# Altium footprint library Levitador_GMI.PcbLib: 28 footprints (part 1 of 2)
Each footprint in its own frame and in the unit in brackets; x right, y up, seen from the top. Pads: shape width x height; smd on the part's side, far side on the other; paste and mask are expansions set on the pad; w line width, h text height; cw(c..) or ccw(c..) is an arc to the next point about the centre after c.
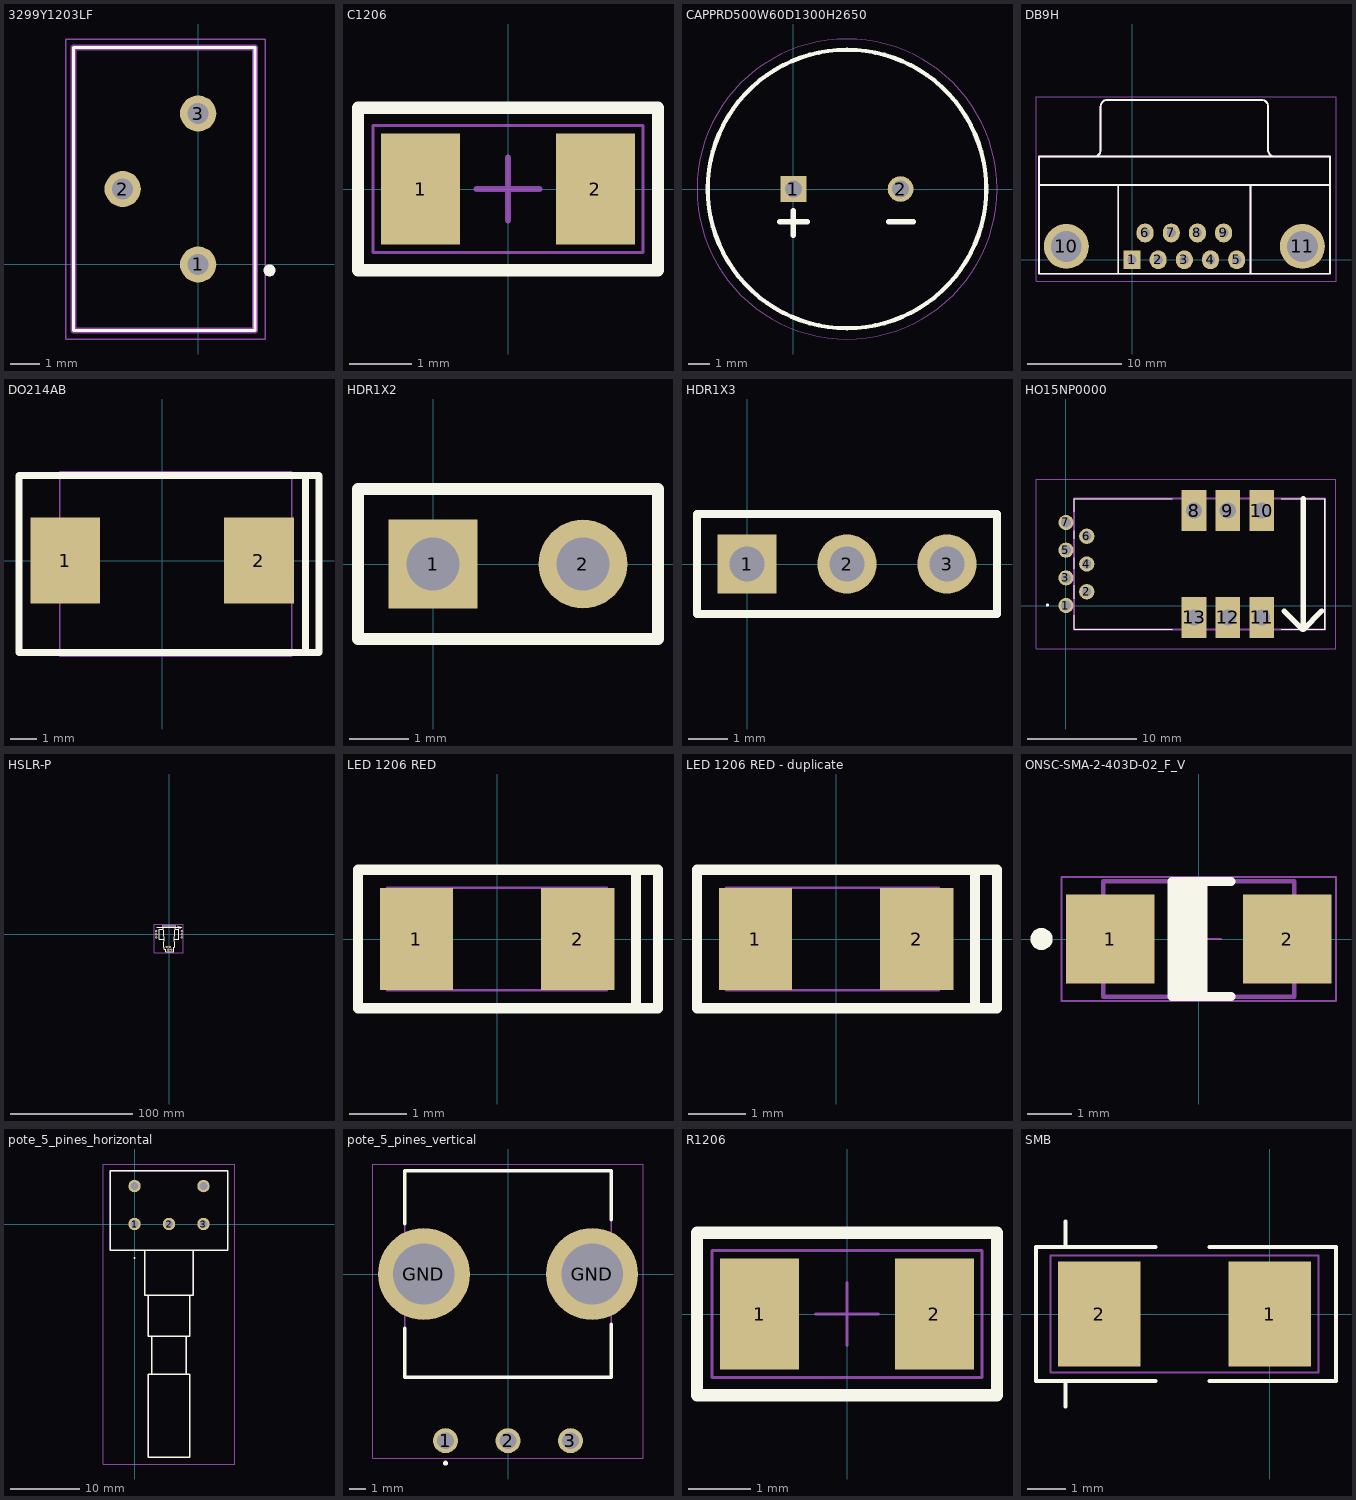
[diagram p0: the footprints below, top view; thin cyan lines are the x and y axes]

## 3299Y1203LF [mm]
pads (3):
  round 1.217 hole 0.71: 1(0,0) 2(-2.54,2.54) 3(0,5.08)
Top Overlay:
  lines w0.1: -4.19,-2.225 1.91,-2.225 1.91,7.305 -4.19,7.305 -4.19,-2.225
  lines w0.2: 2.4,-0.3 ccw(c2.4,-0.2) 2.4,-0.1 ccw(c2.4,-0.2) 2.4,-0.3
Mechanical 13:
  lines w0.2: -4.19,-2.225 1.91,-2.225 1.91,7.305 -4.19,7.305 -4.19,-2.225
Mechanical 15:
  lines w0.05: -4.463,-2.507 2.251,-2.507 2.251,7.587 -4.463,7.587 -4.463,-2.507
3D body "3299Y-1-203LF.stp": height 11.65, standoff -5, extent -4.19,-2.225 1.91,7.305

## C1206 [mm]
pads (2):
  rect 1.27x1.778 smd: 1(-1.4,0) 2(1.4,0)
Top Overlay:
  lines w0.2: -2.4,-1.3 -2.4,1.3 2.4,1.3 2.4,-1.3 -2.4,-1.3
Mechanical 15:
  lines w0.05: -2.159,-1.016 -2.159,1.016 2.159,1.016 2.159,-1.016 -2.159,-1.016
  lines w0.1: -0.5,0 0.5,0 ; 0,-0.5 0,0.5
3D body "C1206.step": height 1, standoff 0, extent -1.6,-0.8 1.6,0.8

## CAPPRD500W60D1300H2650 [mm]
pads (2):
  rect 1.2x1.2 hole 0.8: 1(0,0)
  round 1.2 hole 0.8: 2(5,0)
Top Overlay:
  circle w0.2: c2.5,0 r6.5
  lines w0.254: -0.635,-1.524 0.635,-1.524 ; 0,-2.159 0,-1.016 ; 4.445,-1.524 5.588,-1.524
Mechanical 13:
  circle w0.1: c2.5,0 r6.5
Mechanical 15:
  circle w0.05: c2.5,0 r7
3D body "EKY-350ELL102MK25S.stp": height 26.5, standoff -10, extent -4,-6.497 9,6.497

## DB9H [mm]
pads (11):
  rect 1.8x2 hole 1: 1(0,0)
  oval 1.8x2 hole 1: 2(2.77,0) 3(5.54,0) 4(8.31,0) 5(11.08,0) 6(1.385,2.84) 7(4.155,2.84) 8(6.925,2.84) 9(9.695,2.84)
  round 4.76 hole 3.26: 10(-6.955,1.42) 11(18.035,1.42)
Top Overlay:
  lines w0.2: -9.86,7.92 20.94,7.92 ; -4.02,10.925 ccw(c-4.02,11.62) -3.325,11.62 -3.325,16.22 ; -3.32,16.225 cw(c-2.625,16.225) -2.625,16.92 13.705,16.92 cw(c13.705,16.225) 14.4,16.225 ; -1.46,-1.48 -1.46,7.92 ; 12.54,-1.48 12.54,7.92 ; 14.405,16.22 14.405,11.62 ccw(c15.1,11.62) 15.1,10.925 ; -9.86,-1.48 -9.86,10.92 20.94,10.92 20.94,-1.48 -9.86,-1.48
Mechanical 13:
  lines w0.2: -9.86,7.92 20.94,7.92 ; -4.02,10.925 ccw(c-4.02,11.62) -3.325,11.62 -3.325,16.22 ; -3.32,16.225 cw(c-2.625,16.225) -2.625,16.92 13.705,16.92 cw(c13.705,16.225) 14.4,16.225 ; -1.46,-1.48 -1.46,7.92 ; 12.54,-1.48 12.54,7.92 ; 14.405,16.22 14.405,11.62 ccw(c15.1,11.62) 15.1,10.925 ; -9.86,-1.48 20.94,-1.48 20.94,10.92 -9.86,10.92 -9.86,-1.48
Mechanical 15:
  lines w0.051: -9.906,-2.286 21.59,-2.286 21.59,17.272 -10.16,17.272 -10.16,-2.032 -10.16,-2.286 -9.652,-2.286
3D body "DB9H PCB.STEP": height 12.58, standoff -3.14, extent -9.841,-2.082 20.969,16.993

## DO214AB [mil]
pads (2):
  rect 102x126 smd: 1(-142,0) 2(142,0)
Top Overlay:
  lines w10: 210,-135 210,125 ; -210,-135 230,-135 230,125 -210,125 -210,-135
Mechanical 15:
  lines w2: -150,-140 -150,130 190,130 190,-140 -150,-140
3D body "DO-214AB(SMC).step": height 103, standoff -1, extent -145,-129 175,119

## HDR1X2 [mm]
pads (2):
  rect 1.5x1.5 hole 0.9: 1(0,0)
  round 1.5 hole 0.9: 2(2.54,0)
Top Overlay:
  lines w0.2: -1.27,-1.27 -1.27,1.27 3.81,1.27 3.81,-1.27 -1.27,-1.27
Mechanical 15:
  lines w0.05: -1.27,-1.27 3.81,-1.27 3.81,1.27 -1.27,1.27 -1.27,-1.27
3D body "PinHeader_1x02_P2.54mm_Vertical.step": height 8.54, standoff -3, extent -1.27,-1.27 3.81,1.27

## HDR1X3 [mm] "Connector; Header; 3 Position"
pads (3):
  rect 1.5x1.5 hole 0.9: 1(0,0)
  round 1.5 hole 0.9: 2(2.54,0) 3(5.08,0)
Top Overlay:
  lines w0.2: -1.27,-1.27 6.35,-1.27 6.35,1.27 -1.27,1.27 -1.27,-1.27
Mechanical 15:
  lines w0.05: -1.27,0.762 -1.27,1.27 ; -1.27,1.27 6.35,1.27 6.35,-1.27 -1.27,-1.27 -1.27,1.27
3D body "PinHeader_1x03_P2.54mm_Vertical.step": height 8.54, standoff -3, extent -1.27,-1.27 6.35,1.27

## HO15NP0000 [mm]
pads (13):
  round 1.4 hole 0.9: 1(0,0) 2(1.905,1.27) 3(0,2.54) 4(1.905,3.81) 5(0,5.08) 6(1.905,6.35) 7(0,7.62)
  rect 2.25x3.75 hole 1.5: 8(11.735,8.71) 9(14.835,8.71) 10(17.935,8.71) 11(17.935,-1.09) 12(14.835,-1.09) 13(11.735,-1.09)
Top Overlay:
  lines w0.1: 0.735,9.81 9.75,9.81 0.735,9.81 ; 0.735,9.81 0.735,8.62 0.735,9.81 ; 0.75,-2.19 9.75,-2.19 0.75,-2.19 ; 0.75,-2.19 0.735,-2.19 0.735,-0.88 0.75,-0.88 0.75,-2.19 ; 23.735,-2.19 23.735,9.81 23.75,9.81 ; 23.735,-2.19 23.75,-2.19 23.75,9.81 ; 23.735,-2.19 19.75,-2.19 23.735,-2.19 ; 23.75,9.81 19.75,9.81 23.75,9.81 ; 0.735,0.62 0.735,1.87 0.735,0.62 ; 0.735,3.37 0.735,4.37 0.735,3.37 ; 0.735,6.12 0.735,6.87 0.735,6.12
  lines w0.2: -1.7,0 ccw(c-1.7,0.05) -1.7,0.1 ; -1.7,0 cw(c-1.7,0.05) -1.7,0.1 ; -1.7,0 ccw(c-1.7,0.05) -1.7,0.1
  lines w0.254: 21.683,-2.183 21.75,-2.183
  lines w0.5: 20,-0.5 21.683,-2.183 ; 21.75,9.81 21.75,-2.183 23.433,-0.5
Mechanical 13:
  lines w0.2: 0.735,-2.19 23.735,-2.19 23.735,9.81 0.735,9.81 0.735,-2.19
Mechanical 15:
  lines w0.05: -2.75,-3.965 24.75,-3.965 24.75,11.585 -2.75,11.585 -2.75,-3.965
3D body "HO_15-NP_BLACKBOX.stp": height 11.9, standoff -3.6, extent -0.183,-2.21 23.755,9.79

## HSLR-P [mm]
pads (10):
  round 1.9 hole 1: 1(-1.905,-10.31) 2(-0.635,-12.51) 3(0.635,-10.31) 4(1.905,-12.51) 5(10.5,-2.54) 6(10.5,0) 7(10.5,2.54) 8(-10.5,2.54) 9(-10.5,0) 10(-10.5,-2.54)
Top Overlay:
  lines w0.254: -9.906,5.588 10.541,5.588 ; -4.572,3.937 -8.001,3.937 -8.001,-3.937 -4.064,-3.937 ; -4.4,-10.414 -3.81,-10.414 -3.81,-12.065 -2.54,-12.065 -2.54,-14.351 3.683,-14.351 3.683,-10.414 4.4,-10.414 ; -4.4,-10.4 ccw(c-63.301,-3.844) -5,6.8 5,6.8 ccw(c63.301,-3.844) 4.4,-10.4 ; 4.064,-3.937 8.001,-3.937 8.001,3.937 4.572,3.937 ; 6.731,4.191 10.541,5.588 ; 6.731,6.985 10.541,5.588
Mechanical 15:
  lines w0.05: -11.938,-14.986 11.811,-14.986 11.811,8.255 -11.938,8.255 -11.938,-14.986
3D body: height 12, standoff 0, extent -4.953,-9.398 5.08,6.858

## LED 1206 RED [mm] "Led SMD 1206"
height 0.508
pads (2):
  rect 1.27x1.778 smd: 1(-1.4,0) 2(1.4,0)
Top Overlay:
  lines w0.178: 2.413,-1.2 2.794,-1.2 2.794,1.2 2.413,1.2 ; 2.413,-1.2 2.413,1.2 ; 2.413,-1.2 -2.413,-1.2 -2.413,1.2 2.413,1.2
Mechanical 15:
  lines w0.05: -1.905,-0.889 1.905,-0.889 1.905,0.889 -1.905,0.889 -1.905,-0.889
3D body: height 0.2, standoff 0.13, extent -0.229,-0.229 0.229,0.229
3D body: height 0.13, standoff 0.03, extent -1.143,-0.508 0.356,0.508
3D body: height 0.5, standoff 0, extent 1.14,-0.779 1.752,0.804
3D body: height 0.5, standoff 0, extent -1.051,-0.776 1.158,0.81
3D body: height 0.5, standoff 0, extent -1.66,-0.779 -1.048,0.804

## LED 1206 RED - duplicate [mm] "Led SMD 1206"
height 0.508
pads (2):
  rect 1.27x1.778 smd: 1(-1.4,0) 2(1.4,0)
Top Overlay:
  lines w0.178: 2.413,-1.2 -2.413,-1.2 -2.413,1.2 2.413,1.2 ; 2.413,-1.2 2.413,1.2 ; 2.413,-1.2 2.794,-1.2 2.794,1.2 2.413,1.2
Mechanical 15:
  lines w0.05: -1.905,-0.889 -1.905,0.889 1.778,0.889 1.778,-0.889 -1.905,-0.889
3D body: height 0.5, standoff 0, extent -1.66,-0.779 -1.048,0.804
3D body: height 0.5, standoff 0, extent -1.051,-0.776 1.158,0.81
3D body: height 0.5, standoff 0, extent 1.14,-0.779 1.752,0.804
3D body: height 0.13, standoff 0.03, extent -1.143,-0.508 0.356,0.508
3D body: height 0.2, standoff 0.13, extent -0.229,-0.229 0.229,0.229

## ONSC-SMA-2-403D-02_F_V [mm] "Molded, 2-Leads, Body 4.32x2.6mm"
height 2.2
pads (2):
  rect 2x2 smd: 1(-2,0) 2(2,0)
Top Overlay:
  circle w0.25: c-3.55,0 r0.125
  rectangle: -0.578,-1.3 0.199,1.3
  lines w0.2: 0.736,-1.3 -0.6,-1.3 -0.6,1.3 ; 0.736,1.3 -0.6,1.3 ; -0.6,1.3 -0.6,1.3
Mechanical 13:
  lines w0.1: -2.16,-1.3 2.16,-1.3 2.16,1.3 -2.16,1.3 -2.16,-1.3
Mechanical 15:
  lines w0.05: -0.5,0 0.5,0 ; 0,-0.5 0,0.5 ; -3.1,-1.4 -3.1,1.4 3.1,1.4 3.1,-1.4 -3.1,-1.4
3D body: height 2.2, standoff 0.05, extent -2.16,-1.3 2.16,1.3

## pote_5_pines_horizontal [mm] "P162G100QRC30B103"
pads (5):
  round 1.8 hole 1.2: 1(0,0) 2(5,0) 3(10,0) SW1(0,5.5) SW2(10,5.5)
Top Overlay:
  lines w0.2: 0,-5 cw(c0,-4.95) 0,-4.9 ; 0,-5 ccw(c0,-4.95) 0,-4.9 ; 0,-5 cw(c0,-4.95) 0,-4.9 ; -3.5,-3.8 -3.5,7.7 13.5,7.7 13.5,-3.8 -3.5,-3.8 ; 1.5,-10.3 1.5,-3.8 8.5,-3.8 8.5,-10.3 1.5,-10.3 ; 2,-33.8 2,-21.8 8,-21.8 8,-33.8 2,-33.8 ; 2,-16.3 2,-10.3 8,-10.3 8,-16.3 2,-16.3 ; 2.5,-21.8 2.5,-16.3 7.5,-16.3 7.5,-21.8 2.5,-21.8
Mechanical 13:
  lines w0.1: -3.5,-3.8 -3.5,7.7 13.5,7.7 13.5,-3.8 -3.5,-3.8 ; 1.5,-10.3 1.5,-3.8 8.5,-3.8 8.5,-10.3 1.5,-10.3 ; 2,-33.8 2,-21.8 8,-21.8 8,-33.8 2,-33.8 ; 2,-16.3 2,-10.3 8,-10.3 8,-16.3 2,-16.3 ; 2.5,-21.8 2.5,-16.3 7.5,-16.3 7.5,-21.8 2.5,-21.8
Mechanical 15:
  lines w0.05: -4.5,-34.8 -4.5,8.7 14.5,8.7 14.5,-34.8 -4.5,-34.8
3D body "P162G100QRC30B103.stp": height 21.1, standoff -5, extent -3.5,-33.8 13.5,7.7

## pote_5_pines_vertical [mm]
pads (5):
  round 1.5 hole 1: 1(-3.75,-10) 2(0,-10) 3(3.75,-10)
  round 5.52 hole 3.68: GND(-5.05,0) GND(5.05,0)
Top Overlay:
  lines w0.2: -6.2,-6.2 6.2,-6.2 ; -6.2,-6.2 6.2,-6.2 ; -6.2,-6.2 -6.2,-3.25 -6.2,-6.2 ; -6.2,6.2 -6.2,3 -6.2,6.2 ; -6.2,6.2 6.2,6.2 ; -6.2,6.2 6.2,6.2 ; -3.75,-11.4 cw(c-3.75,-11.35) -3.75,-11.3 ; -3.75,-11.4 ccw(c-3.75,-11.35) -3.75,-11.3 ; -3.75,-11.4 cw(c-3.75,-11.35) -3.75,-11.3 ; 6.2,-6.2 6.2,-3 6.2,-6.2 ; 6.2,6.2 6.2,3.25 6.2,6.2
Mechanical 13:
  lines w0.1: -6.2,-6.2 6.2,-6.2 6.2,6.2 -6.2,6.2 -6.2,-6.2
Mechanical 15:
  lines w0.05: -8.128,-11.049 8.128,-11.049 8.128,6.604 -8.128,6.604 -8.128,-11.049
3D body "PDB12-H4251-202BF.stp": height 25.1, standoff -5, extent -6.79,-10.399 6.79,6.2

## R1206 [mm]
pads (2):
  rect 1.27x1.778 smd: 1(-1.4,0) 2(1.4,0)
Top Overlay:
  lines w0.2: -2.4,-1.3 -2.4,1.3 2.4,1.3 2.4,-1.3 -2.4,-1.3
Mechanical 15:
  lines w0.05: -0.5,0 0.5,0 ; 0,-0.5 0,0.5 ; -2.159,-1.016 -2.159,1.016 2.159,1.016 2.159,-1.016 -2.159,-1.016
3D body "1206 SMD Resistor.step": height 1, standoff 0, extent -1.6,-0.8 1.6,0.8

## SMB [mil] "Para diodos como  4007, supresores, etc"
pads (2):
  rect 85x108 smd: 1(0,0) 2(-175,0)
Top Overlay:
  lines w4: -209.57,-95 -209.57,-68.9 ; -209.57,68.9 -209.57,95 ; -117.12,-68.9 -240,-68.9 -240,-27.4 -240,27.4 -240,68.9 -117.12,68.9 ; -62.01,-68.9 67.91,-68.9 67.91,68.9 -62.01,68.9
Mechanical 15:
  lines w1.97: -225,-60 50,-60 50,60 -225,60 -225,-60
3D body "DIODE_DO-214AC.step": height 92.01, standoff 0, extent -194.01,-54.99 14.02,55